# Altium footprint library OSC-SMD_4P-L3.2-W2.5-BL_2021-08-21.PcbLib: 1 footprints
Each footprint in its own frame and in the unit in brackets; x right, y up, seen from the top. Pads: shape width x height; smd on the part's side, far side on the other; paste and mask are expansions set on the pad; w line width, h text height; cw(c..) or ccw(c..) is an arc to the next point about the centre after c.
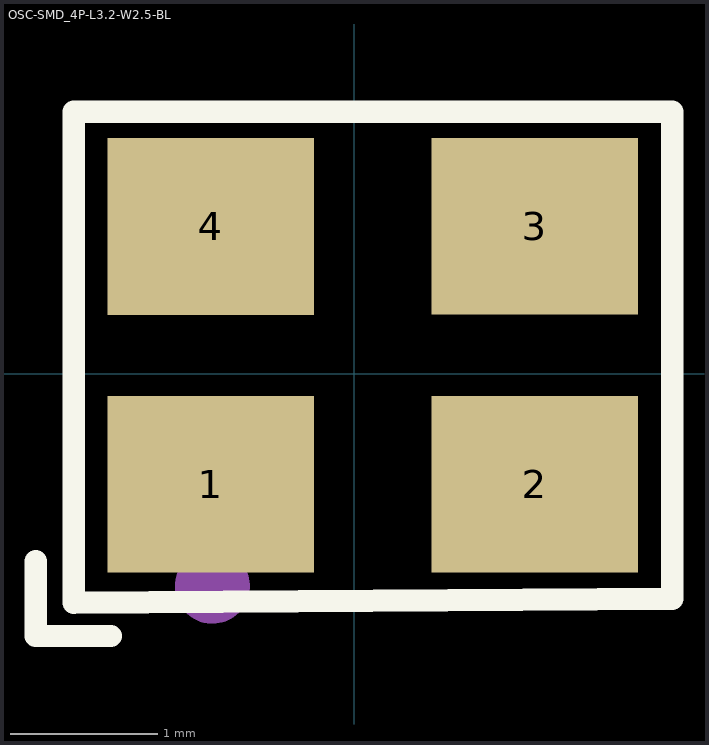
[diagram p0: the footprint, top view; thin cyan lines are the x and y axes]

## OSC-SMD_4P-L3.2-W2.5-BL [mm]
pads (4):
  rect 1.4x1.2 smd: 1(-0.973,-0.748) 2(1.227,-0.748) 3(1.227,1.002) 4(-0.973,1.002)
Top Overlay:
  lines w0.152: -2.159,-1.27 -2.159,-1.778 -1.651,-1.778 ; -1.903,-1.552 2.159,-1.524 2.159,0.127 2.159,1.778 -1.903,1.778 -1.903,-1.552
Mechanical 15:
  circle w0.254: c-0.961,-1.44 r0.127
  region: -1.611,-0.409 -1.575,-0.409 -1.575,-0.481 -1.611,-0.481
  region: -1.575,-0.409 -1.539,-0.409 -1.539,-0.481 -1.575,-0.481
  region: -1.539,-0.373 -1.503,-0.373 -1.503,-0.481 -1.539,-0.481
  region: -1.503,-0.337 -1.467,-0.337 -1.467,-0.445 -1.503,-0.445
  region: -1.467,-0.337 -1.431,-0.337 -1.431,-0.877 -1.467,-0.877
  region: -1.431,-0.301 -1.395,-0.301 -1.395,-0.877 -1.431,-0.877
  region: -1.395,-0.301 -1.359,-0.301 -1.359,-0.877 -1.395,-0.877
  region: -1.359,-0.301 -1.323,-0.301 -1.323,-0.877 -1.359,-0.877